# Altium schematic symbol library VS-12CTQ.SchLib: 1 symbol
Pins are listed as number, name and electrical type; pins without a type are passive.

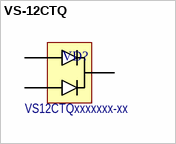
[diagram p0: symbol VS-12CTQ]

## VS-12CTQ
designator VD?  Наименование: VS12CTQxxxxxxx-xx  (hidden comment: VS-12CTQ)
High performance Schottky Rectifier, 2 x 6A; Потребление, Вт: 0.0; Назначение: Schottky rectifier, 2 x 6A; DataSheet: https://www.vishay.com/docs/94924/vs-12ctqs-m3.pdf
footprint D2Pak
pins: 1, 2, 3